# Altium integrated library Big_Library_Diode_Rectifier.IntLib: 4 symbols
Pins are listed as number, name and electrical type; pins without a type are passive.

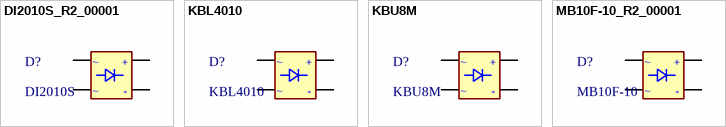
[diagram p0: symbols DI2010S_R2_00001 to MB10F-10_R2_00001]

## DI2010S_R2_00001
designator D?, comment DI2010S
DIODE BRIDGE 2A 1000V SDIP SMD G.PASSIVATED PANJIT; Voltage: 1000V; Current: 2A; Package: 4-SDIP; ComponentLink1Description: Link; ComponentLink1URL: https://ozdisan.com/power-semiconductors/diodes-diode-modules-and-rectifiers/bridge-diodes/DI2010SR200001/349670
footprint SDIP-4
pins: 1 +, 2 -, 3 ~, 4 ~

## KBL4010
designator D?
DIODE BRIDGE 4A 1000V SDIP SMD G.PASSIVATED PANJIT; Voltage: 1000V; Current: 4A; Package: 4-SIP-KBL; ComponentLink1Description: Link; ComponentLink1URL: https://ozdisan.com/power-semiconductors/diodes-diode-modules-and-rectifiers/bridge-diodes/FL4010B010001/39310
footprint 4-SIP-KBL
pins: 1 +, 2 ~, 3 ~, 4 -

## KBU8M
designator D?
DIODE BRIDGE 8A 1000V SDIP SMD G.PASSIVATED PANJIT; Voltage: 1000V; Current: 8A; Package: 4-SIP-KBU; ComponentLink1Description: Link; ComponentLink1URL: https://ozdisan.com/power-semiconductors/diodes-diode-modules-and-rectifiers/bridge-diodes/DI2010SR200001/349670
footprint 4-SIP-KBU
pins: 1 -, 2 ~, 3 ~, 4 +

## MB10F-10_R2_00001
designator D?, comment MB10F-10
DIODE BRIDGE 1A 1000V 1PH MBF SMT GLASS PASSIVATED; Voltage: 1000V; Current: 1A; Package: MBF; ComponentLink1Description: Link; ComponentLink1URL: https://ozdisan.com/power-semiconductors/diodes-diode-modules-and-rectifiers/bridge-diodes/MB10F-10R200001/584919
footprint MBF
pins: 1 ~, 2 ~, 3 +, 4 -